# EAGLE library part TDA7253 (library Audio-Power-amlifier)
8W AMPLIFIER WITH MUTING
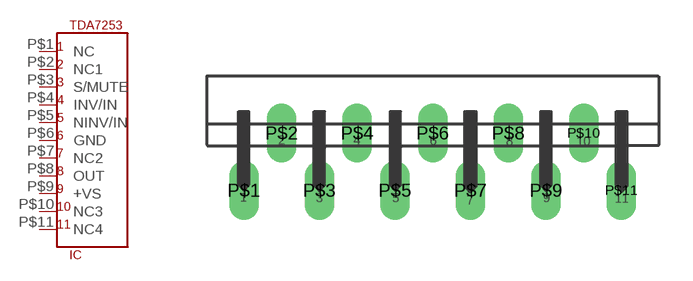
[diagram p30: symbol with the pads of CLIPWATT11; footprint CLIPWATT11]

Designator prefix IC

## TDA7253  [CLIPWATT11]
P$1  NC  nc
P$2  NC1  nc
P$3  S/MUTE
P$4  INV/IN  in
P$5  NINV/IN  in
P$6  GND  pwr
P$7  NC2  nc
P$8  OUT  out
P$9  +VS  pwr
P$10  NC3  nc
P$11  NC4  nc

## Footprint CLIPWATT11 (pad centres in mm)
drill 0.8 long: P$1 -8.382,0; P$2 -6.706,2.54; P$3 -5.029,0; P$4 -3.353,2.54; P$5 -1.676,0; P$6 0,2.54; P$7 1.676,0; P$8 3.353,2.54; P$9 5.029,0; P$10 6.706,2.54; P$11 8.382,0